# Altium schematic symbol library bypass.SchLib: 3 symbols
Pins are listed as number, name and electrical type; pins without a type are passive.

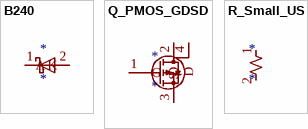
[diagram p0: symbols B240 to R_Small_US]

## B240
designator *
pins: 1 K, 2 A

## Q_PMOS_GDSD
designator *
pins: 1 G, 2 D, 3 S, 4 D

## R_Small_US
designator *
pins: 1, 2